# Altium schematic symbol library F921A106MPA.SchLib: 1 symbol
Pins are listed as number, name and electrical type; pins without a type are passive.

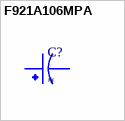
[diagram p0: symbol F921A106MPA]

## F921A106MPA
designator C?
<a href="https://pricing.snapeda.com/parts/F921A475MPA/AVX/view-part?ref=eda">Check availability</a> <a href="https://pricing.snapeda.com/parts/F921A475MPA/AVX/view-part?ref=eda">Check availability</a> <a href="https://pricing.snapeda.com/parts/F921A475MPA/AVX/view-part?ref=eda">Check availability</a>; Manufacturer Part Number: F921A106MPA; Manufacturer: Kyocera AVX; Value: 10uF; ESR: 6R; Voltage Rating: 10V; Tolerance: 20%; Package: None; Supplier Part Number: 478-11412-1-ND
footprint CAPPM2012X120
pins: N NEG, P POS